# Altium footprint library PGA940.PcbLib: 1 footprints
Each footprint in its own frame and in the unit in brackets; x right, y up, seen from the top. Pads: shape width x height; smd on the part's side, far side on the other; paste and mask are expansions set on the pad; w line width, h text height; cw(c..) or ccw(c..) is an arc to the next point about the centre after c.
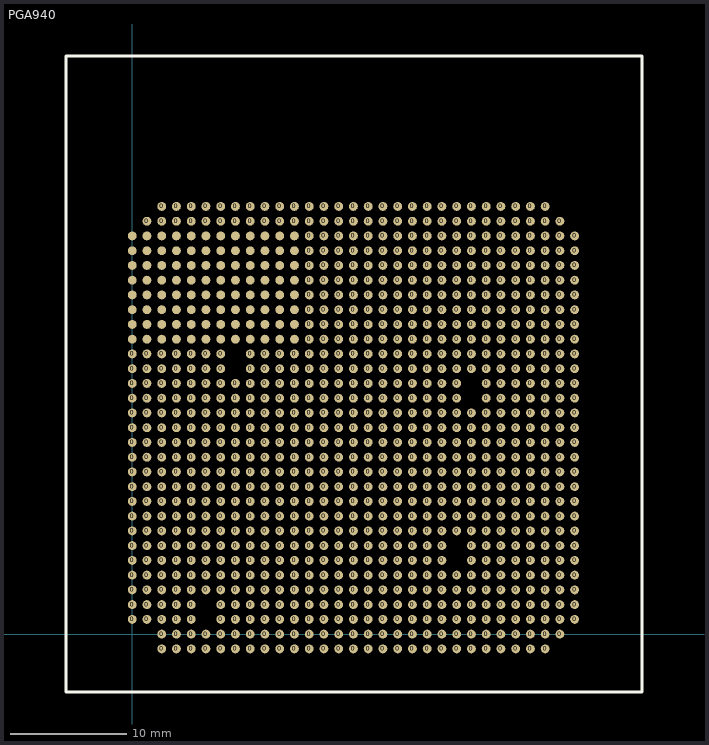
[diagram p0: the footprint, top view; thin cyan lines are the x and y axes]

## PGA940 [mil]
pads (940):
  round 30 smd: 0(0,50) 0(0,100) 0(0,150) 0(0,200) 0(0,250) 0(0,300) 0(0,350) 0(0,400) 0(0,450) 0(0,500) 0(0,550) 0(0,600) 0(0,650) 0(0,700) 0(0,750) 0(0,800) 0(0,850) 0(0,900) 0(0,950) 0(50,50) 0(50,100) 0(50,150) 0(50,200) 0(50,250) 0(50,300) 0(50,350) 0(50,400) 0(50,450) 0(50,500) 0(50,550) 0(50,600) 0(50,650) 0(50,700) 0(50,750) 0(50,800) 0(50,850) 0(50,900) 0(50,950) 0(50,1400) 0(100,-50) 0(100,0) 0(100,50) 0(100,100) 0(100,150) 0(100,200) 0(100,250) 0(100,300) 0(100,350) 0(100,400) 0(100,450) 0(100,500) 0(100,550) 0(100,600) 0(100,650) 0(100,700) 0(100,750) 0(100,800) 0(100,850) 0(100,900) 0(100,950) 0(100,1400) 0(100,1450) 0(150,-50) 0(150,0) 0(150,50) 0(150,100) 0(150,150) 0(150,200) 0(150,250) 0(150,300) 0(150,350) 0(150,400) 0(150,450) 0(150,500) 0(150,550) 0(150,600) 0(150,650) 0(150,700) 0(150,750) 0(150,800) 0(150,850) 0(150,900) 0(150,950) 0(150,1400) 0(150,1450) 0(200,-50) 0(200,0) 0(200,50) 0(200,100) 0(200,150) 0(200,200) 0(200,250) 0(200,300) 0(200,350) 0(200,400) 0(200,450) 0(200,500) 0(200,550) 0(200,600) 0(200,650) 0(200,700) 0(200,750) 0(200,800) 0(200,850) 0(200,900) 0(200,950) 0(200,1400) 0(200,1450) 0(250,-50) 0(250,0) 0(250,150) 0(250,200) 0(250,250) 0(250,300) 0(250,350) 0(250,400) 0(250,450) 0(250,500) 0(250,550) 0(250,600) 0(250,650) 0(250,700) 0(250,750) 0(250,800) 0(250,850) 0(250,900) 0(250,950) 0(250,1400) 0(250,1450) 0(300,-50) 0(300,0) 0(300,50) 0(300,100) 0(300,150) 0(300,200) 0(300,250) 0(300,300) 0(300,350) 0(300,400) 0(300,450) 0(300,500) 0(300,550) 0(300,600) 0(300,650) 0(300,700) 0(300,750) 0(300,800) 0(300,850) 0(300,900) 0(300,950) 0(300,1400) 0(300,1450) 0(350,-50) 0(350,0) 0(350,50) 0(350,100) 0(350,150) 0(350,200) 0(350,250) 0(350,300) 0(350,350) 0(350,400) 0(350,450) 0(350,500) 0(350,550) 0(350,600) 0(350,650) 0(350,700) 0(350,750) 0(350,800) 0(350,850) 0(350,1400) 0(350,1450) 0(400,-50) 0(400,0) 0(400,50) 0(400,100) 0(400,150) 0(400,200) 0(400,250) 0(400,300) 0(400,350) 0(400,400) 0(400,450) 0(400,500) 0(400,550) 0(400,600) 0(400,650) 0(400,700) 0(400,750) 0(400,800) 0(400,850) 0(400,900) 0(400,950) 0(400,1400) 0(400,1450) 0(450,-50) 0(450,0) 0(450,50) 0(450,100) 0(450,150) 0(450,200) 0(450,250) 0(450,300) 0(450,350) 0(450,400) 0(450,450) 0(450,500) 0(450,550) 0(450,600) 0(450,650) 0(450,700) 0(450,750) 0(450,800) 0(450,850) 0(450,900) 0(450,950) 0(450,1400) 0(450,1450) 0(500,-50) 0(500,0) 0(500,50) 0(500,100) 0(500,150) 0(500,200) 0(500,250) 0(500,300) 0(500,350) 0(500,400) 0(500,450) 0(500,500) 0(500,550) 0(500,600) 0(500,650) 0(500,700) 0(500,750) 0(500,800) 0(500,850) 0(500,900) 0(500,950) 0(500,1400) 0(500,1450) 0(550,-50) 0(550,0) 0(550,50) 0(550,100) 0(550,150) 0(550,200) 0(550,250) 0(550,300) 0(550,350) 0(550,400) 0(550,450) 0(550,500) 0(550,550) 0(550,600) 0(550,650) 0(550,700) 0(550,750) 0(550,800) 0(550,850) 0(550,900) 0(550,950) 0(550,1400) 0(550,1450) 0(600,-50) 0(600,0) 0(600,50) 0(600,100) 0(600,150) 0(600,200) 0(600,250) 0(600,300) 0(600,350) 0(600,400) 0(600,450) 0(600,500) 0(600,550) 0(600,600) 0(600,650) 0(600,700) 0(600,750) 0(600,800) 0(600,850) 0(600,900) 0(600,950) 0(600,1000) 0(600,1050) 0(600,1100) 0(600,1150) 0(600,1200) 0(600,1250) 0(600,1300) 0(600,1350) 0(600,1400) 0(600,1450) 0(650,-50) 0(650,0) 0(650,50) 0(650,100) 0(650,150) 0(650,200) 0(650,250) 0(650,300) 0(650,350) 0(650,400) 0(650,450) 0(650,500) 0(650,550) 0(650,600) 0(650,650) 0(650,700) 0(650,750) 0(650,800) 0(650,850) 0(650,900) 0(650,950) 0(650,1000) 0(650,1050) 0(650,1100) 0(650,1150) 0(650,1200) 0(650,1250) 0(650,1300) 0(650,1350) 0(650,1400) 0(650,1450) 0(700,-50) 0(700,0) 0(700,50) 0(700,100) 0(700,150) 0(700,200) 0(700,250) 0(700,300) 0(700,350) 0(700,400) 0(700,450) 0(700,500) 0(700,550) 0(700,600) 0(700,650) 0(700,700) 0(700,750) 0(700,800) 0(700,850) 0(700,900) 0(700,950) 0(700,1000) 0(700,1050) 0(700,1100) 0(700,1150) 0(700,1200) 0(700,1250) 0(700,1300) 0(700,1350) 0(700,1400) 0(700,1450) 0(750,-50) 0(750,0) 0(750,50) 0(750,100) 0(750,150) 0(750,200) 0(750,250) 0(750,300) 0(750,350) 0(750,400) 0(750,450) 0(750,500) 0(750,550) 0(750,600) 0(750,650) 0(750,700) 0(750,750) 0(750,800) 0(750,850) 0(750,900) 0(750,950) 0(750,1000) 0(750,1050) 0(750,1100) 0(750,1150) 0(750,1200) 0(750,1250) 0(750,1300) 0(750,1350) 0(750,1400) 0(750,1450) 0(800,-50) 0(800,0) 0(800,50) 0(800,100) 0(800,150) 0(800,200) 0(800,250) 0(800,300) 0(800,350) 0(800,400) 0(800,450) 0(800,500) 0(800,550) 0(800,600) 0(800,650) 0(800,700) 0(800,750) 0(800,800) 0(800,850) 0(800,900) 0(800,950) 0(800,1000) 0(800,1050) 0(800,1100) 0(800,1150) 0(800,1200) 0(800,1250) 0(800,1300) 0(800,1350) 0(800,1400) 0(800,1450) 0(850,-50) 0(850,0) 0(850,50) 0(850,100) 0(850,150) 0(850,200) 0(850,250) 0(850,300) 0(850,350) 0(850,400) 0(850,450) 0(850,500) 0(850,550) 0(850,600) 0(850,650) 0(850,700) 0(850,750) 0(850,800) 0(850,850) 0(850,900) 0(850,950) 0(850,1000) 0(850,1050) 0(850,1100) 0(850,1150) 0(850,1200) 0(850,1250) 0(850,1300) 0(850,1350) 0(850,1400) 0(850,1450) 0(900,-50) 0(900,0) 0(900,50) 0(900,100) 0(900,150) 0(900,200) 0(900,250) 0(900,300) 0(900,350) 0(900,400) 0(900,450) 0(900,500) 0(900,550) 0(900,600) 0(900,650) 0(900,700) 0(900,750) 0(900,800) 0(900,850) 0(900,900) 0(900,950) 0(900,1000) 0(900,1050) 0(900,1100) 0(900,1150) 0(900,1200) 0(900,1250) 0(900,1300) 0(900,1350) 0(900,1400) 0(900,1450) 0(950,-50) 0(950,0) 0(950,50) 0(950,100) 0(950,150) 0(950,200) 0(950,250) 0(950,300) 0(950,350) 0(950,400) 0(950,450) 0(950,500) 0(950,550) 0(950,600) 0(950,650) 0(950,700) 0(950,750) 0(950,800) 0(950,850) 0(950,900) 0(950,950) 0(950,1000) 0(950,1050) 0(950,1100) 0(950,1150) 0(950,1200) 0(950,1250) 0(950,1300) 0(950,1350) 0(950,1400) 0(950,1450) 0(1000,-50) 0(1000,0) 0(1000,50) 0(1000,100) 0(1000,150) 0(1000,200) 0(1000,250) 0(1000,300) 0(1000,350) 0(1000,400) 0(1000,450) 0(1000,500) 0(1000,550) 0(1000,600) 0(1000,650) 0(1000,700) 0(1000,750) 0(1000,800) 0(1000,850) 0(1000,900) 0(1000,950) 0(1000,1000) 0(1000,1050) 0(1000,1100) 0(1000,1150) 0(1000,1200) 0(1000,1250) 0(1000,1300) 0(1000,1350) 0(1000,1400) 0(1000,1450) 0(1050,-50) 0(1050,0) 0(1050,50) 0(1050,100) 0(1050,150) 0(1050,200) 0(1050,250) 0(1050,300) 0(1050,350) 0(1050,400) 0(1050,450) 0(1050,500) 0(1050,550) 0(1050,600) 0(1050,650) 0(1050,700) 0(1050,750) 0(1050,800) 0(1050,850) 0(1050,900) 0(1050,950) 0(1050,1000) 0(1050,1050) 0(1050,1100) 0(1050,1150) 0(1050,1200) 0(1050,1250) 0(1050,1300) 0(1050,1350) 0(1050,1400) 0(1050,1450) 0(1100,-50) 0(1100,0) 0(1100,50) 0(1100,100) 0(1100,150) 0(1100,200) 0(1100,350) 0(1100,400) 0(1100,450) 0(1100,500) 0(1100,550) 0(1100,600) 0(1100,650) 0(1100,700) 0(1100,750) 0(1100,800) 0(1100,850) 0(1100,900) 0(1100,950) 0(1100,1000) 0(1100,1050) 0(1100,1100) 0(1100,1150) 0(1100,1200) 0(1100,1250) 0(1100,1300) 0(1100,1350) 0(1100,1400) 0(1100,1450) 0(1150,-50) 0(1150,0) 0(1150,50) 0(1150,100) 0(1150,150) 0(1150,200) 0(1150,250) 0(1150,300) 0(1150,350) 0(1150,400) 0(1150,450) 0(1150,500) 0(1150,550) 0(1150,600) 0(1150,650) 0(1150,700) 0(1150,750) 0(1150,900) 0(1150,950) 0(1150,1000) 0(1150,1050) 0(1150,1100) 0(1150,1150) 0(1150,1200) 0(1150,1250) 0(1150,1300) 0(1150,1350) 0(1150,1400) 0(1150,1450) 0(1200,-50) 0(1200,0) 0(1200,50) 0(1200,100) 0(1200,150) 0(1200,200) 0(1200,250) 0(1200,300) 0(1200,350) 0(1200,400) 0(1200,450) 0(1200,500) 0(1200,550) 0(1200,600) 0(1200,650) 0(1200,700) 0(1200,750) 0(1200,800) 0(1200,850) 0(1200,900) 0(1200,950) 0(1200,1000) 0(1200,1050) 0(1200,1100) 0(1200,1150) 0(1200,1200) 0(1200,1250) 0(1200,1300) 0(1200,1350) 0(1200,1400) 0(1200,1450) 0(1250,-50) 0(1250,0) 0(1250,50) 0(1250,100) 0(1250,150) 0(1250,200) 0(1250,250) 0(1250,300) 0(1250,350) 0(1250,400) 0(1250,450) 0(1250,500) 0(1250,550) 0(1250,600) 0(1250,650) 0(1250,700) 0(1250,750) 0(1250,800) 0(1250,850) 0(1250,900) 0(1250,950) 0(1250,1000) 0(1250,1050) 0(1250,1100) 0(1250,1150) 0(1250,1200) 0(1250,1250) 0(1250,1300) 0(1250,1350) 0(1250,1400) 0(1250,1450) 0(1300,-50) 0(1300,0) 0(1300,50) 0(1300,100) 0(1300,150) 0(1300,200) 0(1300,250) 0(1300,300) 0(1300,350) 0(1300,400) 0(1300,450) 0(1300,500) 0(1300,550) 0(1300,600) 0(1300,650) 0(1300,700) 0(1300,750) 0(1300,800) 0(1300,850) 0(1300,900) 0(1300,950) 0(1300,1000) 0(1300,1050) 0(1300,1100) 0(1300,1150) 0(1300,1200) 0(1300,1250) 0(1300,1300) 0(1300,1350) 0(1300,1400) 0(1300,1450) 0(1350,-50) 0(1350,0) 0(1350,50) 0(1350,100) 0(1350,150) 0(1350,200) 0(1350,250) 0(1350,300) 0(1350,350) 0(1350,400) 0(1350,450) 0(1350,500) 0(1350,550) 0(1350,600) 0(1350,650) 0(1350,700) 0(1350,750) 0(1350,800) 0(1350,850) 0(1350,900) 0(1350,950) 0(1350,1000) 0(1350,1050) 0(1350,1100) 0(1350,1150) 0(1350,1200) 0(1350,1250) 0(1350,1300) 0(1350,1350) 0(1350,1400) 0(1350,1450) 0(1400,-50) 0(1400,0) 0(1400,50) 0(1400,100) 0(1400,150) 0(1400,200) 0(1400,250) 0(1400,300) 0(1400,350) 0(1400,400) 0(1400,450) 0(1400,500) 0(1400,550) 0(1400,600) 0(1400,650) 0(1400,700) 0(1400,750) 0(1400,800) 0(1400,850) 0(1400,900) 0(1400,950) 0(1400,1000) 0(1400,1050) 0(1400,1100) 0(1400,1150) 0(1400,1200) 0(1400,1250) 0(1400,1300) 0(1400,1350) 0(1400,1400) 0(1400,1450) 0(1450,0) 0(1450,50) 0(1450,100) 0(1450,150) 0(1450,200) 0(1450,250) 0(1450,300) 0(1450,350) 0(1450,400) 0(1450,450) 0(1450,500) 0(1450,550) 0(1450,600) 0(1450,650) 0(1450,700) 0(1450,750) 0(1450,800) 0(1450,850) 0(1450,900) 0(1450,950) 0(1450,1000) 0(1450,1050) 0(1450,1100) 0(1450,1150) 0(1450,1200) 0(1450,1250) 0(1450,1300) 0(1450,1350) 0(1450,1400) 0(1500,50) 0(1500,100) 0(1500,150) 0(1500,200) 0(1500,250) 0(1500,300) 0(1500,350) 0(1500,400) 0(1500,450) 0(1500,500) 0(1500,550) 0(1500,600) 0(1500,650) 0(1500,700) 0(1500,750) 0(1500,800) 0(1500,850) 0(1500,900) 0(1500,950) 0(1500,1000) 0(1500,1050) 0(1500,1100) 0(1500,1150) 0(1500,1200) 0(1500,1250) 0(1500,1300) 0(1500,1350) A1(0,1000) A2(50,1000) A3(100,1000) A4(150,1000) A5(200,1000) A6(250,1000) A7(300,1000) A8(350,1000) A9(400,1000) A10(450,1000) A11(500,1000) A12(550,1000) B1(0,1050) B2(50,1050) B3(100,1050) B4(150,1050) B5(200,1050) B6(250,1050) B7(300,1050) B8(350,1050) B9(400,1050) B10(450,1050) B11(500,1050) B12(550,1050) C1(0,1100) C2(50,1100) C3(100,1100) C4(150,1100) C5(200,1100) C6(250,1100) C7(300,1100) C8(350,1100) C9(400,1100) C10(450,1100) C11(500,1100) C12(550,1100) D1(0,1150) D2(50,1150) D3(100,1150) D4(150,1150) D5(200,1150) D6(250,1150) D7(300,1150) D8(350,1150) D9(400,1150) D10(450,1150) D11(500,1150) D12(550,1150) E1(0,1200) E2(50,1200) E3(100,1200) E4(150,1200) E5(200,1200) E6(250,1200) E7(300,1200) E8(350,1200) E9(400,1200) E10(450,1200) E11(500,1200) E12(550,1200) F1(0,1250) F2(50,1250) F3(100,1250) F4(150,1250) F5(200,1250) F6(250,1250) F7(300,1250) F8(350,1250) F9(400,1250) F10(450,1250) F11(500,1250) F12(550,1250) G1(0,1300) G2(50,1300) G3(100,1300) G4(150,1300) G5(200,1300) G6(250,1300) G7(300,1300) G8(350,1300) G9(400,1300) G10(450,1300) G11(500,1300) G12(550,1300) H1(0,1350) H2(50,1350) H3(100,1350) H4(150,1350) H5(200,1350) H6(250,1350) H7(300,1350) H8(350,1350) H9(400,1350) H10(450,1350) H11(500,1350) H12(550,1350)
Top Overlay:
  lines w10: 1724.41,-196.85 -224.41,-196.85 -224.41,1960.63 1724.41,1960.63 ; 1728.35,-196.85 1728.35,1960.63